# EAGLE library part EE2-*TNUH (library Relay)
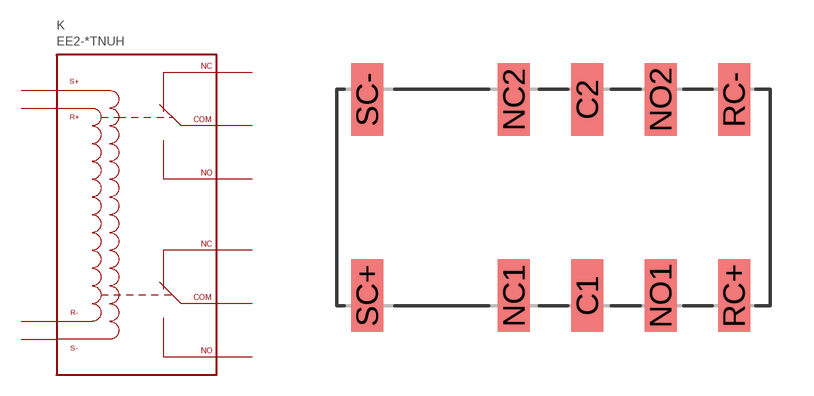
[diagram p0: symbol with the pads of EE2-XXTNUH; footprint EE2-XXTNUH]

Designator prefix K

## EE2-12TNUH, EE2-24TNUH, EE2-3TNUH, EE2-4.5TNUH, EE2-5TNUH  [EE2-XXTNUH]
C1  COM1
C2  COM2
NC1  NC1
NC2  NC2
NO1  NO1
NO2  NO2
RC+  RC+
RC-  RC-
SC+  SC+
SC-  SC-

## Footprint EE2-XXTNUH (pad centres in mm)
smd 1.11 x 2.5: C1 1.17,-3.395; C2 1.17,3.395; NC1 -1.37,-3.395; NC2 -1.37,3.395; NO1 3.71,-3.395; NO2 3.71,3.395; RC+ 6.25,-3.395; RC- 6.25,3.395; SC+ -6.45,-3.395; SC- -6.45,3.395